# EAGLE library part NANOPI_NEO_PLUS2 (library NANOPI-NEO-PLUS2)
12 Position Receptacle Connector 0.100" (2.54mm) Through Hole Gold Source: Datasheet <https://www.te.com/commerce/DocumentDelivery/DDEController?Action=showdoc&DocId=Customer Drawing535541PpdfEnglishENG_CD_535541_P.pdf1-535541-0>
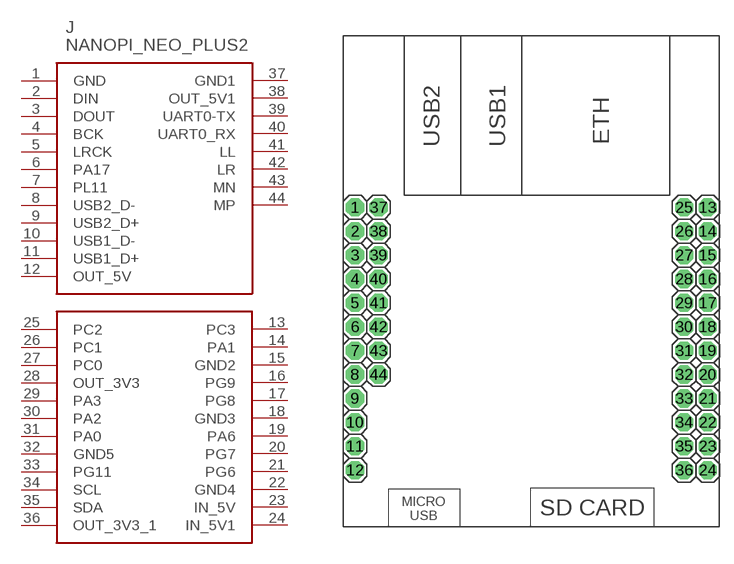
[diagram p0: symbol with the pads of NANOPI_NEO_PLUS2; footprint NANOPI_NEO_PLUS2]

Designator prefix J

## NANOPI_NEO_PLUS2 (DESCRIPTION: 12 Position Receptacle Connector 0.100" (2.54mm) Through Hole Gold; HEIGHT: 6.47mm; MANUFACTURER_NAME: TE Connectivity; MANUFACTURER_PART_NUMBER: 1-535541-0; MOUSER_PART_NUMBER: 571-1-535541-0; MOUSER_PRICE-STOCK: https://www.mouser.co.uk/ProductDetail/TE-Connectivity/1-535541-0?qs=VKrXD49J9ErfIT2bXrgBeA%3D%3D)  [NANOPI_NEO_PLUS2]
1  GND
2  DIN
3  DOUT
4  BCK
5  LRCK
6  PA17
7  PL11
8  USB2_D-
9  USB2_D+
10  USB1_D-
11  USB1_D+
12  OUT_5V
13  PC3
14  PA1
15  GND2
16  PG9
17  PG8
18  GND3
19  PA6
20  PG7
21  PG6
22  GND4
23  IN_5V
24  IN_5V1
25  PC2
26  PC1
27  PC0
28  OUT_3V3
29  PA3
30  PA2
31  PA0
32  GND5
33  PG11
34  SCL
35  SDA
36  OUT_3V3_1
37  GND1
38  OUT_5V1
39  UART0-TX
40  UART0_RX
41  LL
42  LR
43  MN
44  MP

## Footprint NANOPI_NEO_PLUS2 (pad centres in mm)
1-535541-0
drill 1.016 pad 1.93 octagon: 1 -19.05,12.7; 2 -19.05,10.16; 3 -19.05,7.62; 4 -19.05,5.08; 5 -19.05,2.54; 6 -19.05,0; 7 -19.05,-2.54; 8 -19.05,-5.08; 9 -19.05,-7.62; 10 -19.05,-10.16; 11 -19.05,-12.7; 12 -19.05,-15.24; 13 18.45,12.7; 14 18.45,10.16; 15 18.45,7.62; 16 18.45,5.08; 17 18.45,2.54; 18 18.45,0; 19 18.45,-2.54; 20 18.45,-5.08; 21 18.45,-7.62; 22 18.45,-10.16; 23 18.45,-12.7; 24 18.45,-15.24; 25 15.95,12.7; 26 15.95,10.16; 27 15.95,7.62; 28 15.95,5.08; 29 15.95,2.54; 30 15.95,0; 31 15.95,-2.54; 32 15.95,-5.08; 33 15.95,-7.62; 34 15.95,-10.16; 35 15.95,-12.7; 36 15.95,-15.24; 37 -16.55,12.7; 38 -16.55,10.16; 39 -16.55,7.62; 40 -16.55,5.08; 41 -16.55,2.54; 42 -16.55,0; 43 -16.55,-2.54; 44 -16.55,-5.08